# EAGLE library part A-788BS (library pavlo)
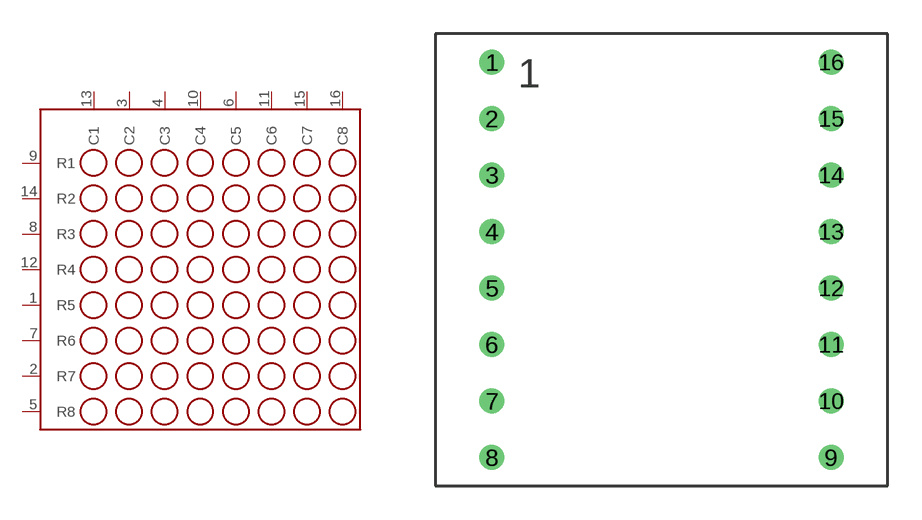
[diagram p15: symbol with the pads of A-788BS; footprint A-788BS]

Designator prefix -

## A-788BS  [A-788BS]
1  R5
2  R7
3  C2
4  C3
5  R8
6  C5
7  R6
8  R3
9  R1
10  C4
11  C6
12  R4
13  C1
14  R2
15  C7
16  C8

## Footprint A-788BS (pad centres in mm)
drill 0.6: 1 -7.5,8.75; 2 -7.5,6.25; 3 -7.5,3.75; 4 -7.5,1.25; 5 -7.5,-1.25; 6 -7.5,-3.75; 7 -7.5,-6.25; 8 -7.5,-8.75; 9 7.5,-8.75; 10 7.5,-6.25; 11 7.5,-3.75; 12 7.5,-1.25; 13 7.5,1.25; 14 7.5,3.75; 15 7.5,6.25; 16 7.5,8.75